# EAGLE library part P-D1P1S (library #PaJa_prepinace)
Mikrospinac packovy - 100mA, pouzivany v mechanikach CD-rom
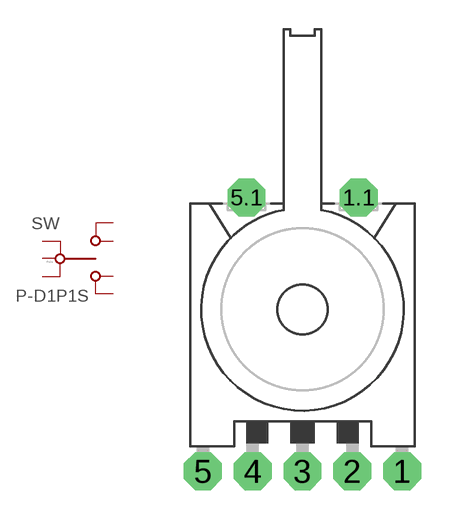
[diagram p11: symbol with the pads of P-D1P1S; footprint P-D1P1S]

Designator prefix SW

## P-D1P1S  [P-D1P1S]
1  1  pas
1.1  1.1  pas
2  2  pas
3  3  pas
4  4  pas
5  5  pas
5.1  5.1  pas

## Footprint P-D1P1S (pad centres in mm)
drill 0.813 pad 1.93 octagon: 1 5.08,0; 1.1 2.857,13.97; 2 2.54,0; 3 0,0; 4 -2.54,0; 5 -5.08,0; 5.1 -2.857,13.97